# Altium schematic symbol library ProgettoAgrifoodLibreriaSCH.SchLib: 64 symbols
Pins are listed as number, name and electrical type; pins without a type are passive.

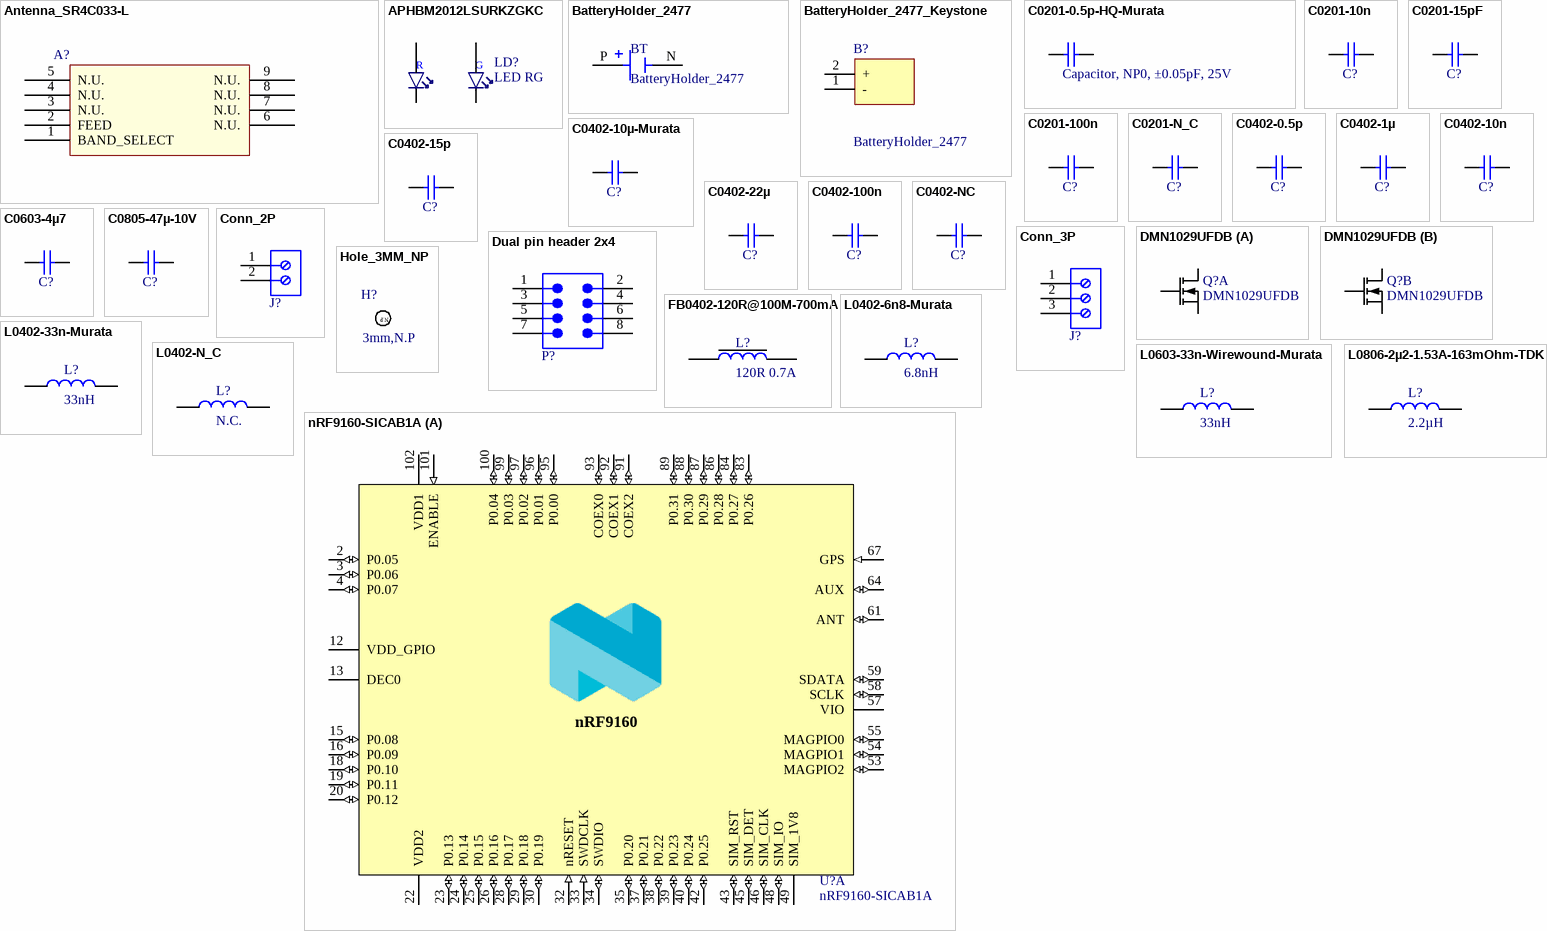
[diagram p0: symbols Antenna_SR4C033-L to nRF9160-SICAB1A]

## Antenna_SR4C033-L
designator A?, comment SR4C033-L
Antennas NB-IoT/LP-WAN Left Antenna; Value: SR4C033-L
footprint SR4C033L
pins: 1 BAND_SELECT, 2 FEED, 3 N.U., 4 N.U., 5 N.U., 6 N.U., 7 N.U., 8 N.U., 9 N.U.

## APHBM2012LSURKZGKC
designator LD?, comment LED RG
Red green LED 2 mm x 1.25 mm SMD; Value: LED RG
footprint LED_RGB_0805
pins: 1 C_GREEN, 2 C_RED, 3 A_RED, 4 A_GREEN
text: R; G

## BatteryHolder_2477
designator BT
Battery holder for coin battery, modello BH1000G; Value: BatteryHolder_2477
footprint BatteryHolder2477
pins: N NEG, P POS

## BatteryHolder_2477_Keystone
designator B?, comment BatteryHolder_2477
Battery holder for coin battery, Keystone model 1025-7; Value: BatteryHolder_2477
footprint BatteryHolder2477_Keystone
pins: 1 -, 2 +

## C0201-0.5p-HQ-Murata
designator Capacitor, NP0, ±0.05pF, 25V, comment 0.5pF  (value not drawn)
Capacitor, NP0, ±0.5pF, 25V; Value: 0.5pF
footprint CAPC0603X03L_C
pins: 1, 2

## C0201-10n
designator C?, comment 10nF  (value not drawn)
Capacitor, X7R, ±10%; Value: 10nF
footprint CAPC0603X03L_C
pins: 1, 2

## C0201-15pF
designator C?, comment 15nF  (value not drawn)
Capacitor, NP0, ±5%, 25V; Value: 15nF
footprint CAPC0603X03L_C
pins: 1, 2

## C0201-100n
designator C?, comment 100nF  (value not drawn)
Capacitor, X5R, ±10%; Value: 100nF
footprint CAPC0603X03L_C
pins: 1, 2

## C0201-N_C
designator C?, comment N.C.  (value not drawn)
Capacitor, X5R, ±10%; Value: N.C.
footprint CAPC0603X03L_C_NC
pins: 1, 2

## C0402-0.5p
designator C?, comment 0.5pF  (value not drawn)
Capacitor, NP0, ±5%, 25V; ComponentLink1Description: Website Link; ComponentLink1URL: N.A.; ComponentLink2Description: Datasheet Link; ComponentLink2URL: N.A.; Value: 0.5pF
footprint CAPC1005X04L
pins: 1, 2

## C0402-1µ
designator C?, comment 1µF  (value not drawn)
Capacitor, X5R, ±5%, 6.3V; Value: 1µF
footprint CAPC1005X04L
pins: 1, 2

## C0402-10n
designator C?, comment 10nF  (value not drawn)
Capacitor, X7R, ±10%; Value: 10nF
footprint CAPC1005X04L
pins: 1, 2

## C0402-10µ-Murata
designator C?, comment 10µF  (value not drawn)
Capacitor, X5R, ±20%, 6.3V; Value: 10µF
footprint CAPC1005X04L
pins: 1, 2

## C0402-15p
designator C?, comment 15pF  (value not drawn)
Capacitor, NP0, ±5%, 25V; ComponentLink1Description: Website Link; ComponentLink1URL: N.A.; ComponentLink2Description: Datasheet Link; ComponentLink2URL: N.A.; Value: 15pF
footprint CAPC1005X04L
pins: 1, 2

## C0402-22µ
designator C?, comment 22µF  (value not drawn)
Capacitor, X5R, ±20%, 6.3V; Value: 22µF
footprint CAPC1005X04L
pins: 1, 2

## C0402-100n
designator C?, comment 100nF  (value not drawn)
Capacitor, X5R, ±10%; Value: 100nF
footprint CAPC1005X04L
pins: 1, 2

## C0402-NC
designator C?, comment N.C.  (value not drawn)
Not mounted; Value: N.C.
footprint CAPC1005X04L_N_C_
pins: 1, 2

## C0603-4µ7
designator C?, comment 4.7µF  (value not drawn)
Capacitor, X5R, ±10%; Value: 4.7µF
footprint CAPC1608X06L
pins: 1, 2

## C0805-47µ-10V
designator C?, comment 47µF  (value not drawn)
Capacitor, X5R, ±20%, 10V; Value: 47µF
footprint CAPC2012X11L
pins: 1, 2

## Conn_2P
designator J?, comment 691210910002  (value not drawn)
WR-TBL Series 2109 Horizontal Entry, THT, pitch 2.54mm, 2p; Value: Conn_2P
footprint CONN_2P_691210910002 (2,54mm - modular - green - Horizontal wire entry - Cage clamp - 0,8mm2 wires - 02p)
pins: 1, 2

## Conn_3P
designator J?, comment 691210910003  (value not drawn)
WR-TBL Series 2109 Horizontal Entry, THT, pitch 2.54mm, 3p; Value: Conn_3P
footprint CONN_3P_691210910003 (2,54mm - modular - green - Horizontal wire entry - Cage clamp - 0,8mm2 wires - 03p)
pins: 1, 2, 3

## DMN1029UFDB
designator Q?
Dual N Ch MOFET, 5.6A, 29mOhm max, 1.4W; Value: DMN1029UFDB
footprint MOSFET_DMP2160UFDB-7
part A pins: 1 S1, 2 G1, 6 D1
part B pins: 3 D2, 4 S2, 5 G2

## Dual pin header 2x4
designator P?  (value not drawn)
Dual Pin Header, THT, Vertical, pitch 2.54mm, 2 Row, 8P; Value: Dual pin header 2x4
footprint Dual_pin_header_2x4_THT (Pin Header, pitch 2.54 mm, THT, Vertical, dual row, 8p)
pins: 1, 2, 3, 4, 5, 6, 7, 8

## FB0402-120R@100M-700mA
designator L?, comment 120R 0.7A
Ferrite Bead, 120 Ohm @ 100MHz, 700mA, 130 mOhm Max; Value: 120R 0.7A
footprint INDC1005X05L
pins: 1, 2

## Hole_3MM_NP
designator H?, comment 3mm,N.P  (no BOM)
Regular Non-Plated, 3mm hole; Value: 3mm,N.P
footprint HOLE_NP_3MM
text: N.P

## L0402-6n8-Murata
designator L?, comment 6.8nH
Inductor, 300mA, ±3%, 670mΩ, Q=8; Value: 6.8nH
footprint INDC1005X05L
pins: 1, 2

## L0402-33n-Murata
designator L?, comment 33nH
Inductor, 300mA, ±3%, 670mΩ, Q=8; Value: 33nH
footprint INDC1005X05L
pins: 1, 2

## L0402-N_C
designator L?, comment N.C.
Not mounted; Value: N.C.
footprint INDC1005X05L_N_C_
pins: 1, 2

## L0603-33n-Wirewound-Murata
designator L?, comment 33nH
Inductor, 420mA, ±5%, 230mΩ, Q=40; Value: 33nH
footprint INDC1608X06L_WW
pins: 1, 2

## L0806-2µ2-1.53A-163mOhm-TDK
designator L?, comment 2.2µH
Shielded wirewound Inductor 1.53 A 163mOhm, ±20%; MF: TDK Corporation; MP: VLS201610CX-2R2M-1; Check_prices: https://www.snapeda.com/parts/VLS201610CX-2R2M-1/TDK/view-part/?ref=eda; Price: None; Availability: In Stock; SnapEDA_Link: https://www.snapeda.com/parts/VLS201610CX-2R2M-1/TDK/view-part/?ref=snap; Value: 2.2µH; Package: NON STANDARD-2 TDK; Purchase-URL: https://pricing.snapeda.com/search/part/VLS201610CX-2R2M-1/?ref=eda
footprint INDC2016X10CX
pins: 1, 2

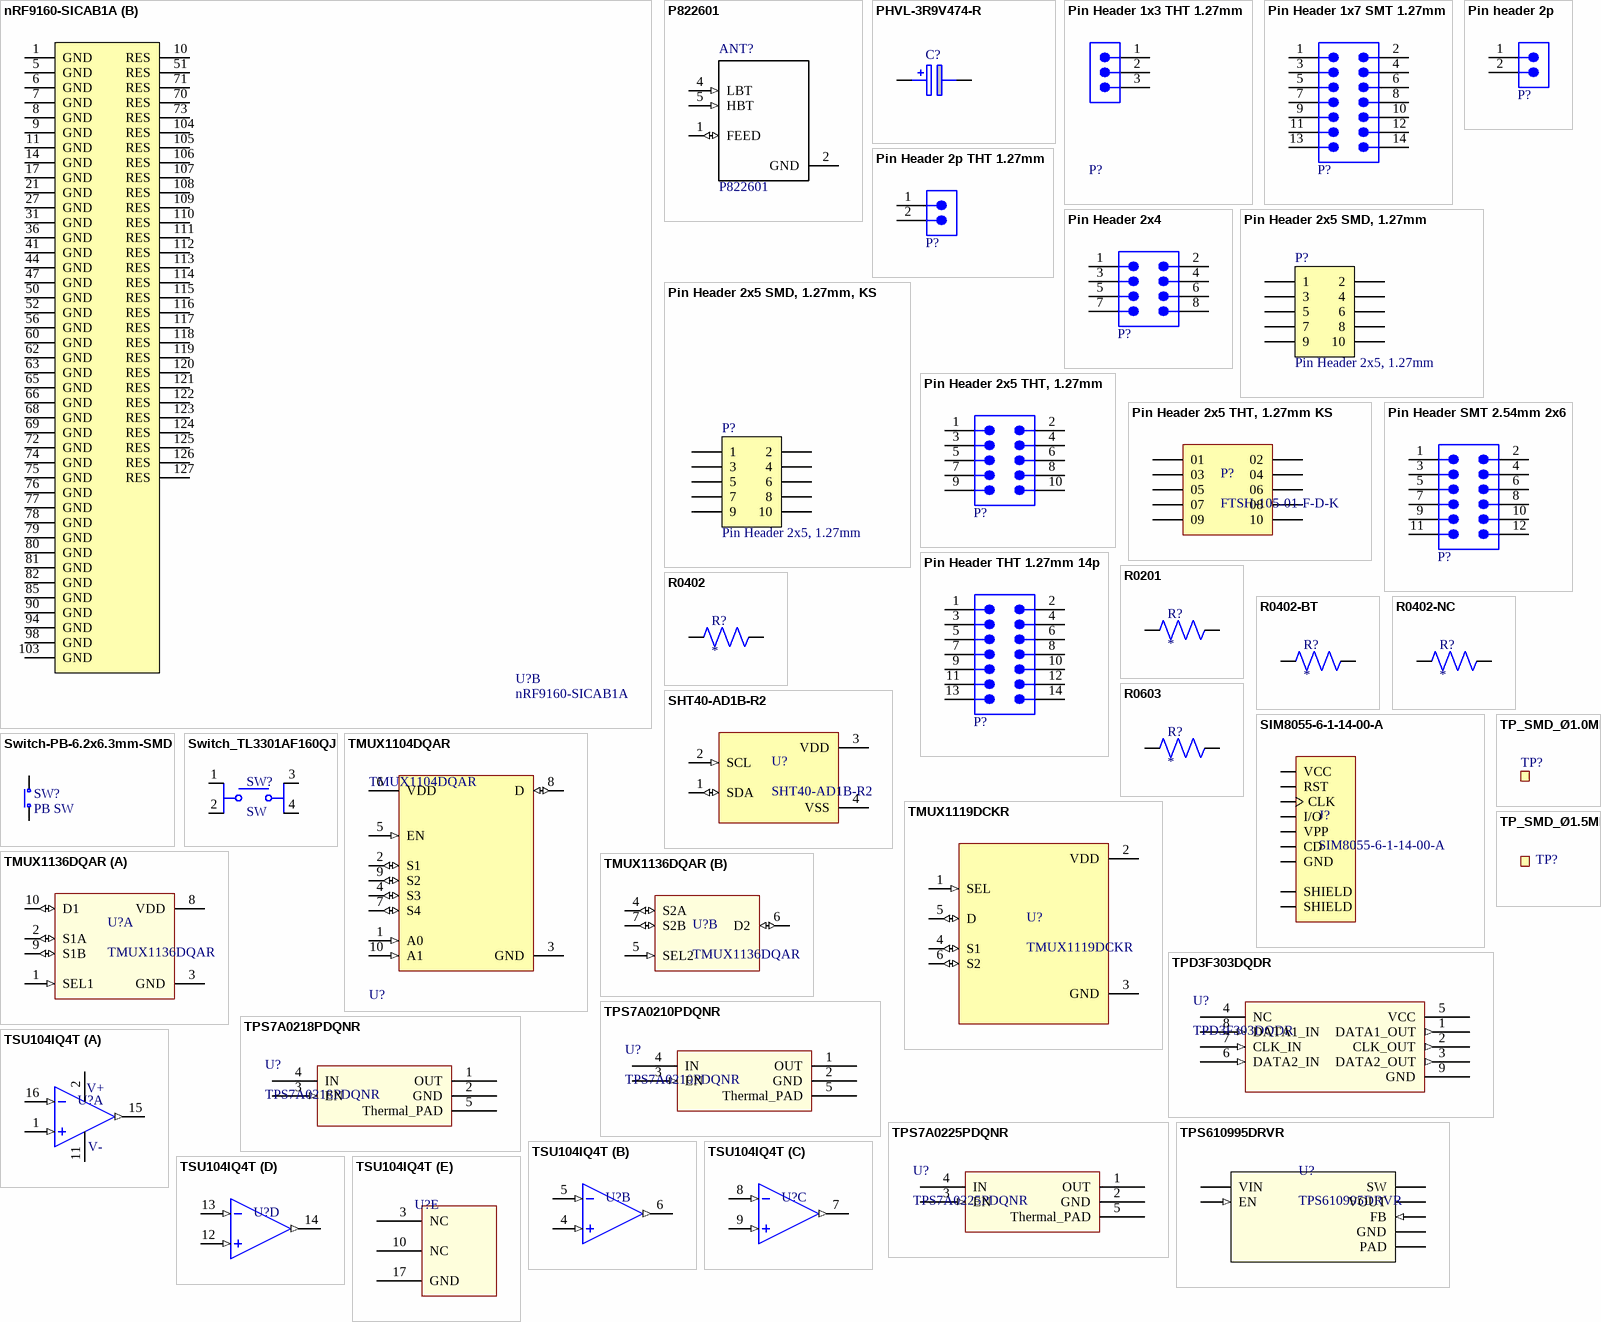
[diagram p1: symbols nRF9160-SICAB1A to TSU104IQ4T]

## nRF9160-SICAB1A
designator U?
Low power System-in-Package with integrated LTE-M/NB-IoT modem and GPS; Manufacturer: Nordic Semiconductor; Part number IPS: 80000002329; Note: N.A.; Pad Count: 161; Part Number: nRF9160-SICAB1A; Manufacturer Part Number: nRF9160-SICAB1A; Footprint Doc: LGA-161; Value: nRF9160-SICAB1A; ComponentLink1URL: N.A.; ComponentLink1Description: Datasheet; ComponentLink2URL: N.A.; ComponentLink2Description: Supplier link; HelpURL: N.A.; LatestRevisionDate: 2020-08-13; Published: 2020-08-13; Supplier 1: Nordic Semiconductor; Supplier Part Number 1: nRF9160-SICAB1A; Supplier 2: N.A.; Supplier Part Number 2: N.A.; Artikkelnr Noca: N.A.; Component Class: nRF_Devices; Author: rsk; Part number Norautron: N.A.; PartId: 102000165
footprint nRF9160_LGA50P1600X1050X104-161N
part A pins: 2 P0.05 (io), 3 P0.06 (io), 4 P0.07 (io), 12 VDD_GPIO (power), 13 DEC0 (power), 15 P0.08 (io), 16 P0.09 (io), 18 P0.10 (io), 19 P0.11 (io), 20 P0.12 (io), 22 VDD2 (power), 23 P0.13 (io), 24 P0.14 (io), 25 P0.15 (io), 26 P0.16 (io), 28 P0.17 (io), 29 P0.18 (io), 30 P0.19 (io), 32 nRESET (in), 33 SWDCLK (in), 34 SWDIO (io), 35 P0.20 (io), 37 P0.21 (io), 38 P0.22 (io), 39 P0.23 (io), 40 P0.24 (io), 42 P0.25 (io), 43 SIM_RST (io), 45 SIM_DET (io), 46 SIM_CLK (io), 48 SIM_IO (io), 49 SIM_1V8 (power), 53 MAGPIO2 (io), 54 MAGPIO1 (io), 55 MAGPIO0 (io), 57 VIO (power), 58 SCLK (io), 59 SDATA (io), 61 ANT (io), 64 AUX (io), 67 GPS (in), 83 P0.26 (io), 84 P0.27 (io), 86 P0.28 (io), 87 P0.29 (io), 88 P0.30 (io), 89 P0.31 (io), 91 COEX2 (io), 92 COEX1 (io), 93 COEX0 (io), 95 P0.00 (io), 96 P0.01 (io), 97 P0.02 (io), 99 P0.03 (io), 100 P0.04 (io), 101 ENABLE (in), 102 VDD1 (power)
part B pins: 1 GND (power), 5 GND (power), 6 GND, 7 GND, 8 GND, 9 GND (power), 10 RES, 11 GND, 14 GND (power), 17 GND (power), 21 GND (power), 27 GND (power), 31 GND (power), 36 GND (power), 41 GND (power), 44 GND (power), 47 GND (power), 50 GND (power), 51 RES, 52 GND (power), 56 GND (power), 60 GND (power), 62 GND (power), 63 GND (power), 65 GND (power), 66 GND (power), 68 GND, 69 GND, 70 RES, 71 RES, 72 GND (power), 73 RES, 74 GND (power), 75 GND (power), 76 GND (power), 77 GND (power), 78 GND (power), 79 GND (power), 80 GND (power), 81 GND (power), 82 GND (power), 85 GND (power), 90 GND (power), 94 GND (power), 98 GND (power), 103 GND (power), 104 RES, 105 RES, 106 RES, 107 RES, 108 RES, 109 RES, 110 RES, 111 RES, 112 RES, 113 RES, 114 RES, 115 RES, 116 RES, 117 RES, 118 RES, 119 RES, 120 RES, 121 RES, 122 RES, 123 RES, 124 RES, 125 RES, 126 RES, 127 RES
part A text: nRF9160

## P822601
designator ANT?
Value: *
footprint P822601
pins: 1 FEED (io), 2 GND (power), 4 LBT (in), 5 HBT (in)

## PHVL-3R9V474-R
designator C?, comment 0.47F
Supercapacitors 0.47F, 3.9V working voltage, 5V surge voltage, 1µA leak current; Value: 0.47F
footprint TH_SUPCAP_PHVL3R9V474R
pins: 1 -, 2 +

## Pin Header 1x3 THT 1.27mm
designator P?
Pin Header, THT, Vertical, pitch 1.27mm, 1 Row, 3P
footprint HDR_1x3_THT_1.27mm
pins: 1, 2, 3

## Pin Header 1x7 SMT 1.27mm
designator P?, comment 62101421021  (value not drawn)
WR-PHD Pin Header, SMT, Vertical, pitch 1.27mm, 2 Row, 14P; Manufacturer: Wurth Elektronik; Contact Resistance: 20mΩ; Rated Current: 1A; Working Voltage: 100V; Withstanding Voltage: 500V; ComponentLink1Description: Website Link; ComponentLink1URL: https://www.we-online.com/redexpert/article/62101421021?ad; ComponentLink2Description: Datasheet Link; ComponentLink2URL: https://www.we-online.com/redexpert/spec/62101421021?ad; Manufacturer Part Number: 62101421021; Category: Board-to-Board Connectors; Match Code: WR-PHD; Mount: Surface Mount; Operating Temperature Max: 105°C; Operating Temperature Min: -40°C; Packaging: Tube; Gender: Pin Header; Number of Pins: 14; Number of Rows: 2; Orientation: Vertical; Pitch: 1.27mm
footprint HDR_SMT_2x7_1mm27 (Pin Header, pitch 1.27 mm, SMD, Vertical, dual row, 14p)
pins: 1, 2, 3, 4, 5, 6, 7, 8, 9, 10, 11, 12, 13, 14

## Pin header 2p
designator P?  (value not drawn)
Pin Header, THT, Vertical, pitch 2.54mm, 1 Row, 2P; Value: Pin header 2p
footprint Pin_header_1x2 (Pin Header, pitch 2.54 mm, THT, Vertical, single row, 2p)
pins: 1, 2

## Pin Header 2p THT 1.27mm
designator P?, comment Pin header 2p  (value not drawn)
Pin Header, THT, Vertical, pitch 1.27mm, 1 Row, 2P; Value: Pin header 2p
footprint HDR_1x2_THT_1.27mm
pins: 1, 2

## Pin Header 2x4
designator P?  (value not drawn)
Pin Header, SMT, Vertical, pitch 1.27mm, 2 Row, 8P; Value: Pin Header 2x4
footprint PinHeaderSMTpitch1mm27 (Pin Header, pitch 1.27 mm, SMD, Vertical, dual row, 8p)
pins: 1, 2, 3, 4, 5, 6, 7, 8

## Pin Header 2x5 SMD, 1.27mm
designator P?, comment Pin Header 2x5, 1.27mm
Pin Header 2x5, 1.27mm (50mil), SMD; Part Number: Pin Header 2x5 SMD, 1.27mm; Manufacturer: W-CON; Manufacturer Part Number: 1325-1205S0M078R1; Part number IPS: 00000009970; Note: N.A.; Artikkelnr Noca: 55019196; Pad Count: 10; Footprint Doc: HDR_2x5-SMD-1.27mm; LatestRevisionDate: 2016-04-21; Published: 2010-11-25; Value: Pin Header 2x5, 1.27mm; ComponentLink1URL: N.A.; ComponentLink1Description: Datasheet; ComponentLink2URL: N.A.; ComponentLink2Description: Supplier link; HelpURL: http://www.farnell.com/datasheets/81359.pdf; Supplier 1: Cabcon; Supplier Part Number 1: 1325-1205S0M078R1; Supplier 2: Farnell; Supplier Part Number 2: 166-7759; PartId: 100500259; Component Class: Connectors; Author: rsk; Part number Norautron: N.A.
footprint HDR_2x5-SMD-1.27mm
pins: 1, 2, 3, 4, 5, 6, 7, 8, 9, 10

## Pin Header 2x5 SMD, 1.27mm, KS
designator P?, comment Pin Header 2x5, 1.27mm
Pin Header 2x5, 1.27mm (50mil), SMD, Keying Shroud; Part Number: Pin Header 2x5 SMD, 1.27mm, KS; Manufacturer: W-CON; Manufacturer Part Number: 3132-10MS0BK00R1; Part number IPS: 00000009968; Note: N.A.; Artikkelnr Noca: 55010009; Pad Count: 10; Footprint Doc: HDR_2x5-SMD-1.27mm; LatestRevisionDate: 2016-04-21; Published: 2016-01-22; Value: Pin Header 2x5, 1.27mm; ComponentLink1URL: N.A.; ComponentLink1Description: Datasheet; ComponentLink2URL: N.A.; ComponentLink2Description: Supplier link; HelpURL: \\hizz\pro\app9717\Datasheet\connectors\W-CON\3132-XXMXXBK00XX.pdf; Supplier 1: Cabcon; Supplier Part Number 1: 3132-10MS0BK00R1; Supplier 2: Samtec; Supplier Part Number 2: FTSH-105-01-F-DV-K; PartId: 100500261; Component Class: Connectors; Author: rsk; Part number Norautron: N.A.
footprint HDR_2x5-SMD-1.27mm-K
pins: 1, 2, 3, 4, 5, 6, 7, 8, 9, 10

## Pin Header 2x5 THT, 1.27mm
designator P?, comment Pin Header 2x5 THT  (value not drawn)
Pin Header, THT, Vertical,1.27mm, 2 Row, 10P; Value: Pin Header 2x5 THT
footprint PinHeader2x5_Pitch1mm27 (Pin Header, pitch 1.27 mm, THT, Vertical, dual row, 10p)
pins: 1, 2, 3, 4, 5, 6, 7, 8, 9, 10

## Pin Header 2x5 THT, 1.27mm KS
designator P?, comment FTSH-105-01-F-D-K
Connector Header Through Hole 10 position 0.050 (1.27mm); MF: Samtec; Value: FTSH-105-01-F-D-K; Price: None; Toby_UK-Purchase-URL: https://snapeda.com/shop?store=Toby+UK&id=229423; Package: None; SnapEDA_Link: https://www.snapeda.com/parts/FTSH-105-01-F-D-K/Samtec%20Inc./view-part/229423/?ref=snap; Availability: Bad; MP: FTSH-105-01-F-D-K
footprint HDR_2x5-THT-1.27mm-K
pins: 01, 02, 03, 04, 05, 06, 07, 08, 09, 10

## Pin Header SMT 2.54mm 2x6
designator P?, comment 61001221121  (value not drawn)
WR-PHD Pin Header, SMT, Vertical, pitch 2.54mm, 2 Row, 12P; Manufacturer: Wurth Elektronik; Contact Resistance: 20mΩ; Rated Current: 3A; Working Voltage: 250V; Withstanding Voltage: 500V; ComponentLink1Description: Website Link; ComponentLink1URL: https://www.we-online.com/redexpert/article/61001221121?ad; ComponentLink2Description: Datasheet Link; ComponentLink2URL: https://www.we-online.com/redexpert/spec/61001221121?ad; Manufacturer Part Number: 61001221121; Category: Board-to-Board Connectors; Match Code: WR-PHD; Mount: Surface Mount; Operating Temperature Max: 125°C; Operating Temperature Min: -40°C; Packaging: Tube; Gender: Pin Header; Number of Pins: 12; Number of Rows: 2; Orientation: Vertical; Pitch: 2.54mm
footprint HDR_2x6THT-2.54mm (Pin Header, pitch 2.54 mm, SMD, Vertical, dual row, 12p)
pins: 1, 2, 3, 4, 5, 6, 7, 8, 9, 10, 11, 12

## Pin Header THT 1.27mm 14p
designator P?, comment 62201421121  (value not drawn)
WR-PHD Pin Header, THT, Vertical, pitch 1.27mm, 2 Row, 14P; Manufacturer: Wurth Elektronik; Contact Resistance: 20mΩ; Rated Current: 1A; Working Voltage: 100V; Withstanding Voltage: 500V; ComponentLink1Description: Website Link; ComponentLink1URL: https://www.we-online.com/redexpert/article/62201421121?ad; ComponentLink2Description: Datasheet Link; ComponentLink2URL: https://www.we-online.com/redexpert/spec/62201421121?ad; Manufacturer Part Number: 62201421121; Category: Board-to-Board Connectors; Match Code: WR-PHD; Mount: Through Hole; Operating Temperature Max: 105°C; Operating Temperature Min: -40°C; Packaging: Box; Gender: Pin Header; Number of Pins: 14; Number of Rows: 2; Orientation: Vertical; Pitch: 1.27mm
footprint HDR_2x7-THT-1.27mm (Pin Header, pitch 1.27 mm, THT, Vertical, dual row, 14p)
pins: 1, 2, 3, 4, 5, 6, 7, 8, 9, 10, 11, 12, 13, 14

## R0201
designator R?
Resistor, ±1%, 0.05W; MP: MCT06030D1621BP500; Package: None; Price: None; Value: *; Availability: Unavailable
footprint RESC0603X03L_C
pins: 1, 2

## R0402
designator R?
Resistor, ±1%, 0.063W; Value: *
footprint RESC1005X04L
pins: 1, 2

## R0402-BT
designator R?
Resistor, ±1%, 0.250W; Value: *
footprint RESC1005X04L
pins: 1, 2

## R0402-NC
designator R?
Resistor, not mounted; Value: *
footprint RESC1005X04L_NC
pins: 1, 2

## R0603
designator R?
Resistor, ±1%, 0.063W; Value: *
footprint RESC1608X04.5L
pins: 1, 2

## SHT40-AD1B-R2
designator U?
Humidity/Temperature Sensor Digital Serial (I2C) 4-Pin DFN EP T/R; MF: Sensirion AG; Package: None; Value: SHT40-AD1B-R2; Purchase-URL: https://pricing.snapeda.com/search/part/SHT40-AD1B-R2/?ref=eda; Availability: In Stock; MP: SHT40-AD1B-R2; Check_prices: https://www.snapeda.com/parts/SHT40-AD1B-R2/NSI/view-part/?ref=eda; SnapEDA_Link: https://www.snapeda.com/parts/SHT40-AD1B-R2/NSI/view-part/?ref=snap; Price: None
footprint SHT4X
pins: 1 SDA (io), 2 SCL (in), 3 VDD (power), 4 VSS (power)

## SIM8055-6-1-14-00-A
designator J?
SIM Nano Push Pull 6P, No peg, w/switch, T&R; Package: None; Price: None; Value: SIM8055-6-1-14-00-A; MP: SIM8055-6-1-14-00-A; Availability: Unavailable
footprint SIM_Wswitch_SIM8055-6-1-14-00-A_GCT
pins: C1 VCC, C2 RST, C3 CLK, C4 SHIELD, C5 GND, C6 VPP, C7 I/O, C8 SHIELD, CD

## Switch-PB-6.2x6.3mm-SMD
designator SW?, comment PB SW
Tactile Switch, SPNO, SMD, 160gf, 6.2x6.3x2.5mm; Value: PB SW
footprint Switch-PB-6.2x6.3mm-SMD
pins: 1 N.O, 2 COM

## Switch_TL3301AF160QJ
designator SW?, comment SW
Tactile Switch, SPST-NO, SMD, 160gf; Value: SW
footprint SWITCH_TL3301AF160QJ
pins: 1, 2, 3, 4

## TMUX1104DQAR
designator U?
Multiplexer 4:1, 3-pA on-state leakage current, 1.08v - 5V supply range; Value: TMUX1104DQAR
footprint TMUX1104DQAR
pins: 1 A0 (in), 2 S1 (io), 3 GND (power), 4 S3 (io), 5 EN (in), 6 VDD (power), 7 S4 (io), 8 D (io), 9 S2 (io), 10 A1 (in)

## TMUX1119DCKR
designator U?
2:1 precision switch, low leakage current, 1.08v - 5V supply range; MF: Texas Instruments; Texas_Instruments-Purchase-URL: https://snapeda.com/shop?store=Texas+Instruments&id=3222194; Package: SOT-SC70-6 Texas Instruments; MP: TMUX1119DCKR; Value: TMUX1119DCKR; SnapEDA_Link: https://www.snapeda.com/parts/TMUX1119DCKR/Texas%20Instruments/view-part/3222194/?ref=snap; Price: None; Availability: Unavailable
footprint SC70_200X125_6N
pins: 1 SEL (in), 2 VDD (power), 3 GND (power), 4 S1 (io), 5 D (io), 6 S2 (io)

## TMUX1136DQAR
designator U?
Dual switch, low leakage current, 1.08v - 5V supply range; Value: TMUX1136DQAR
footprint TMUX1136DQAR
part A pins: 1 SEL1 (in), 2 S1A (io), 3 GND (power), 8 VDD (power), 9 S1B (io), 10 D1 (io)
part B pins: 4 S2A (io), 5 SEL2 (in), 6 D2 (io), 7 S2B (io)

## TP_SMD_Ø1.0MM
designator TP?, comment Ø1.0mm,SMD  (value not drawn)  (no BOM)
1.0mm circular SMD testpad; Part Number: TP_SMD_Ø1.0MM; Manufacturer: Nordic Semiconductor; Manufacturer Part Number: N.A.; Pad Count: 1; Footprint Doc: TP_SMD_Ø1.0mm; LatestRevisionDate: 2013-06-11; Published: 2013-06-11; Value: Ø1.0mm,SMD; Note: N.A.; Artikkelnr Noca: N.A.; Part number IPS: N.A.; ComponentLink1URL: N.A.; ComponentLink1Description: Datasheet; ComponentLink2URL: N.A.; ComponentLink2Description: Supplier link; HelpURL: N.A.; Supplier 1: N.A.; Supplier Part Number 1: N.A.; Supplier 2: N.A.; Supplier Part Number 2: N.A.; Component Class: Connectors; PartId: 100500475
footprint TP_SMD_Ø1.0mm
pins: 1

## TP_SMD_Ø1.5MM
designator TP?, comment Ø1.5mm,SMD  (value not drawn)  (no BOM)
1.5mm circular SMD testpad; Part Number: TP_SMD_Ø1.5MM; Manufacturer: Nordic Semiconductor; Manufacturer Part Number: N.A.; Pad Count: 1; ComponentLink1URL: N.A.; ComponentLink1Description: Datasheet; ComponentLink2URL: N.A.; ComponentLink2Description: Supplier link; HelpURL: N.A.; Footprint Doc: TP_SMD_Ø1.5mm; LatestRevisionDate: 2021-03-05; Published: 2016-06-02; Value: Ø1.5mm,SMD; Note: N.A.; Supplier 1: N.A.; Supplier Part Number 1: N.A.; Supplier 2: N.A.; Supplier Part Number 2: N.A.; Artikkelnr Noca: N.A.; Part number IPS: N.A.; PartId: 100500477; Component Class: Connectors; Author: rsk; Part number Norautron: N.A.
footprint TP_SMD_D1.5mm
pins: 1

## TPD3F303DQDR
designator U?
EMI Network Filter Arrays SIM CARD EMI FILTER WITH ESD PROTECTION; Value: TPD3F303DQDR
footprint DQD8_1P2X0P4
pins: 1 DATA1_OUT (out), 2 CLK_OUT (out), 3 DATA2_OUT (out), 4 NC, 5 VCC (power), 6 DATA2_IN (in), 7 CLK_IN (in), 8 DATA1_IN (in), 9 GND

## TPS7A0210PDQNR
designator U?
Ultralow power LDO, fixed output 1V, 790 mV dropout voltage, Ignd is 1% of Iout; Value: TPS7A0210PDQNR
footprint TPS7A0210PDQNR
pins: 1 OUT (power), 2 GND (power), 3 EN (in), 4 IN (power), 5 Thermal_PAD

## TPS7A0218PDQNR
designator U?
Ultralow power LDO, fixed output 1.8V, 450 mV dropout voltage, Ignd is 1% of Iout; Value: TPS7A0218PDQNR
footprint TPS7A0218PDQNR
pins: 1 OUT (power), 2 GND (power), 3 EN (in), 4 IN (power), 5 Thermal_PAD

## TPS7A0225PDQNR
designator U?
Ultralow power LDO, fixed output 2.5V, 360 mV dropout voltage, Ignd is 1% of Iout; Value: TPS7A0225PDQNR
footprint TPS7A0225PDQNR
pins: 1 OUT (power), 2 GND (power), 3 EN (in), 4 IN (power), 5 Thermal_PAD

## TPS610995DRVR
designator U?
Boost converter, fixed output 3.6V, 0.7V - 5V input range, 1µA quiescient current; Copyright: Copyright (C) 2023 Ultra Librarian. All rights reserved.; Value: TPS610995DRVR
footprint TPS610995DRVT
pins: 1 GND (power), 2 VOUT (power), 3 FB (in), 4 EN (in), 5 SW (power), 6 VIN (power), 7 PAD (power)

## TSU104IQ4T
designator U?  (value not drawn)
Ultra low-power OpAmp, Quad, 580nA each, 1.5V - 5V supply range; MP: TSU104IPT; MF: STMicroelectronics; SnapEDA_Link: https://www.snapeda.com/parts/TSU104IPT/STMicroelectronics/view-part/1223079/?ref=snap; Value: TSU104IQ4T; Availability: Unavailable; Package: TSSOP-14 STMicroelectronics; Price: None
footprint QFN16_300X300_STM
part A pins: 1 IN1+ (in), 2 V+ (power), 11 V- (power), 15 OUT1 (out), 16 IN1- (in)
part B pins: 4 IN2+ (in), 5 IN2- (in), 6 OUT2 (out)
part C pins: 7 OUT3 (out), 8 IN3- (in), 9 IN3+ (in)
part D pins: 12 IN4+ (in), 13 IN4- (in), 14 OUT4 (out)
part E pins: 3 NC, 10 NC, 17 GND (power)